# EAGLE library part SN74LVC2T45 (library FaBo-LevelTranslator)
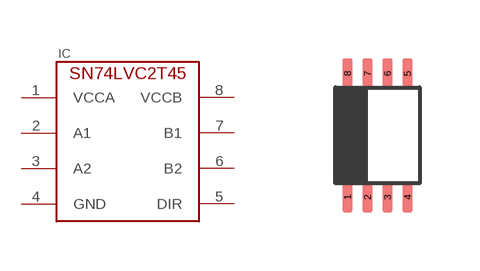
[diagram p6: symbol with the pads of R-PDSO-G8; footprint R-PDSO-G8]

Designator prefix IC

## SN74LVC2T45  [R-PDSO-G8]
1  VCCA
2  A1
3  A2
4  GND
5  DIR
6  B2
7  B1
8  VCCB

## Footprint R-PDSO-G8 (pad centres in mm)
smd 0.25 x 0.75: 1 -0.75,-1.55; 2 -0.25,-1.55; 3 0.25,-1.55; 4 0.75,-1.55; 5 0.75,1.55; 6 0.25,1.55; 7 -0.25,1.55; 8 -0.75,1.55